# EAGLE library part HLK-PM01 (library HLK-PM01)
Hi-Link Power Supply HLK-PM01 3W Author: Ahmed Said <https://github.com/AhmedSaid/EAGLELibraries>
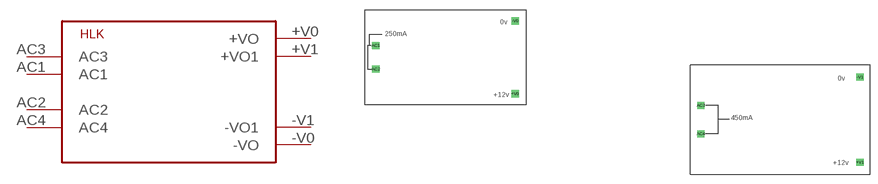
[diagram p0: symbol with the pads of HLK-PM01; footprint HLK-PM01]

Designator prefix HLK

## HLK-PM013W  [HLK-PM01]
+V0  +VO
+V1  +VO1
-V0  -VO
-V1  -VO1
AC1  AC1
AC2  AC2
AC3  AC3
AC4  AC4

## Footprint HLK-PM01 (pad centres in mm)
Hi-Link Power Supply HLK-PM01 3W Author: Ahmed Said <https://github.com/AhmedSaid/EAGLELibraries>
drill 1.016 square: +V0 -53.88,2.46; +V1 18.878,-12.031; -V0 -53.88,17.86; -V1 18.866,5.973; AC1 -83.28,12.66; AC2 -83.28,7.66; AC3 -14.7,-0.002; AC4 -14.7,-5.996